# EAGLE library part PAD/TOUCH/SLIDER (library audioint)
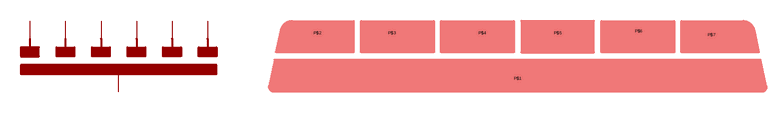
[diagram p23: symbol with the pads of PAD/TOUCH/SLIDER; footprint PAD/TOUCH/SLIDER]

Designator prefix -

## PAD/TOUCH/SLIDERSLIDER  [PAD/TOUCH/SLIDER]
P$1  P$1
P$2  P$2
P$3  P$3
P$4  P$4
P$5  P$5
P$6  P$6
P$7  P$7

## Footprint PAD/TOUCH/SLIDER (pad centres in mm)
smd 1.27 x 0.635: P$1 0,-3.048; P$2 -27.305,3.175; P$3 -17.145,3.175; P$4 -4.826,3.175; P$5 5.461,3.175; P$6 16.51,3.429; P$7 26.416,2.921